# Altium footprint library Motor_driver.PcbLib: 10 footprints
Each footprint in its own frame and in the unit in brackets; x right, y up, seen from the top. Pads: shape width x height; smd on the part's side, far side on the other; paste and mask are expansions set on the pad; w line width, h text height; cw(c..) or ccw(c..) is an arc to the next point about the centre after c.
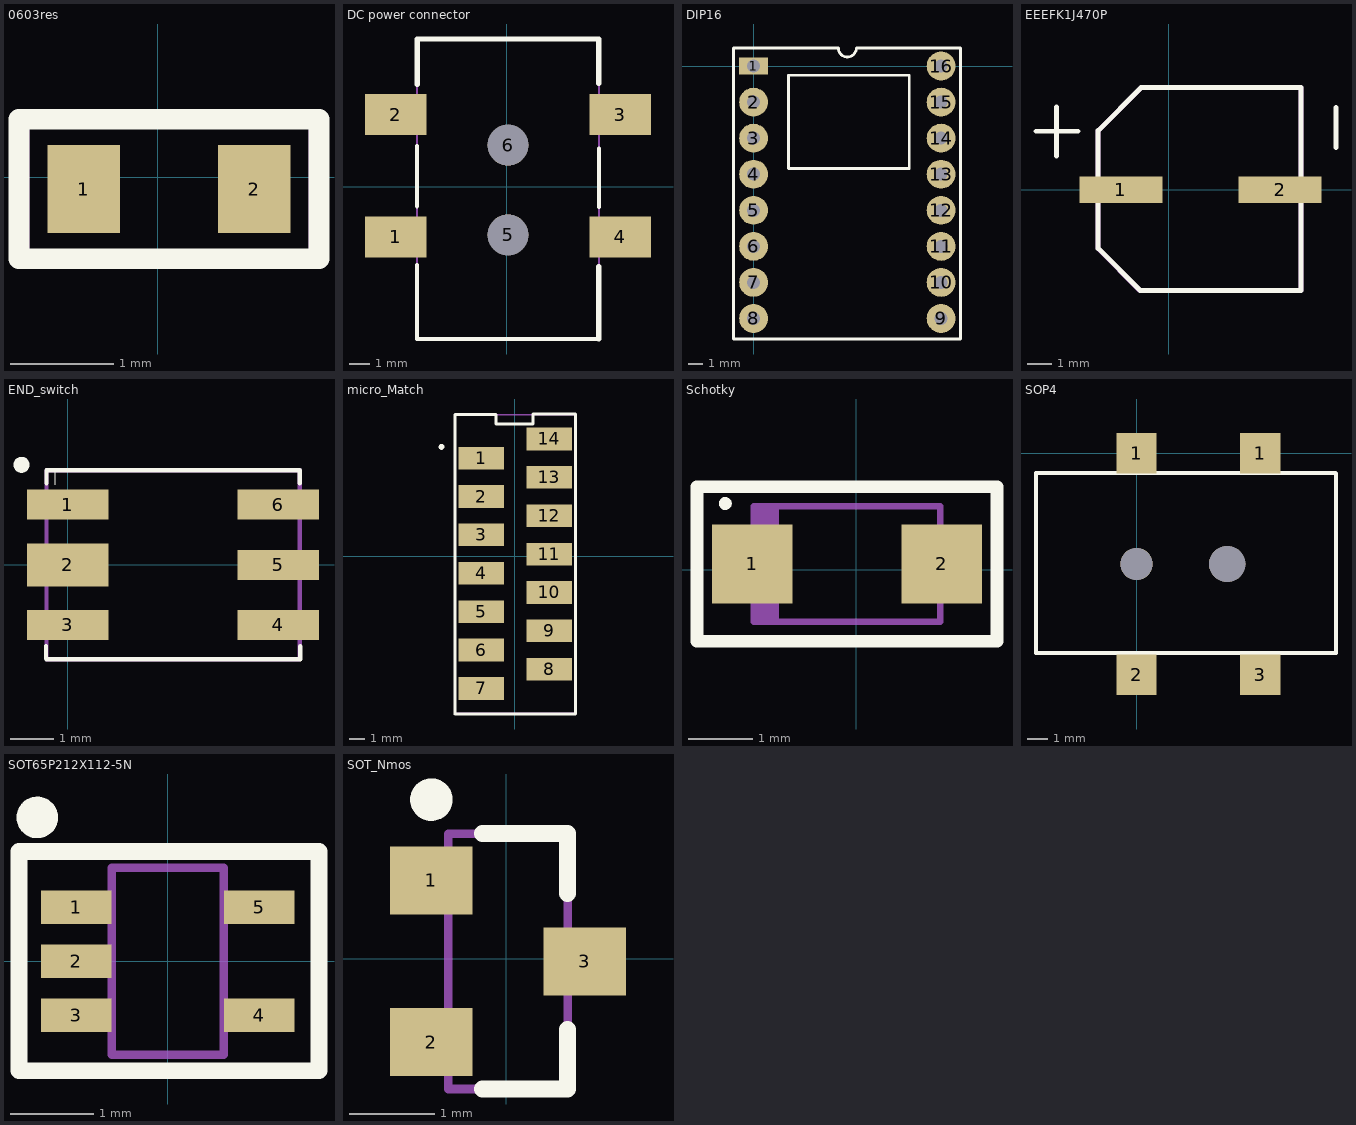
[diagram p0: the footprints below, top view; thin cyan lines are the x and y axes]

## 0603res [mm]
pads (2):
  rect 0.7x0.85 smd: 1(-0.715,-0.115) 2(0.935,-0.115)
Top Overlay:
  lines w0.2: -1.34,-0.79 -1.34,0.56 1.56,0.56 1.56,-0.79 -1.34,-0.79
Mechanical 29:
  lines w0.1: -1.287,-0.75 -1.287,0.52 1.507,0.52 1.507,-0.75 -1.287,-0.75
  text "'.Designator'" at -0.906,-0.496 h0.7
3D body: height 0.6, standoff 0, extent -0.39,-0.515 0.61,0.285
3D body: height 0.6, standoff 0, extent -0.69,-0.515 -0.39,0.285
3D body: height 0.6, standoff 0, extent 0.61,-0.515 0.91,0.285

## DC power connector [mm]
pads (6):
  rect 3x2 smd: 1(-5.439,-2.451) 2(-5.439,3.549) 3(5.561,3.549) 4(5.561,-2.451)
  round 2 hole 2 unplated: 5(0.061,-2.351) 6(0.061,2.049)
Top Overlay:
  lines w0.2: -4.389,-3.825 -4.389,-7.451 4.511,-7.451 ; -4.389,-0.945 -4.389,2.002 ; 4.511,-0.99 4.511,1.89
  lines w0.254: -4.389,5.017 -4.389,7.249 4.511,7.249 4.511,5.085 ; 4.511,-7.451 4.511,-3.893
Mechanical 29:
  lines w0.1: -4.389,-7.451 4.511,-7.451 4.511,7.249 -4.389,7.249 -4.389,-7.451

## DIP16 [mm]
pads (16):
  rect 2x1.2 hole 0.9: 1(0,0)
  round 2 hole 0.9: 2(0,-2.5) 3(0,-5) 4(0,-7.5) 5(0,-10) 6(0,-12.5) 7(0,-15) 8(0,-17.5) 9(13,-17.5) 10(13,-15) 11(13,-12.5) 12(13,-10) 13(13,-7.5) 14(13,-5) 15(13,-2.5) 16(13,0)
Top Overlay:
  lines w0.2: -1.397,-18.923 -1.397,1.25 5.875,1.25 ccw(c6.5,1.25) 7.125,1.25 14.351,1.25 14.351,-18.923 -1.397,-18.923 ; 2.413,-7.112 2.413,-0.635 10.795,-0.635 10.795,-7.112 2.413,-7.112
Mechanical 29:
  text "'.Designator'" at -2.59,-14.12 h2

## EEEFK1J470P [mm]
pads (2):
  rect 3.4x1.1 smd: 1(-1.96,0) 2(4.55,0)
Top Overlay:
  lines w0.2: -5.43,2.39 -3.71,2.39 ; -4.59,1.38 -4.59,3.39 ; 6.84,1.72 6.84,3.37 ; -2.89,-2.4 -2.89,2.42 -1.13,4.18 5.41,4.18 5.41,-4.12 -1.17,-4.12 -2.89,-2.4
Mechanical 29:
  lines w0.2: -2.89,-2.41 -1.18,-4.12 5.41,-4.12 5.41,4.18 -1.13,4.18 -2.89,2.42 -2.89,-2.41
  text "'.Designator'" at -0.68,0.54 h1
3D body "SW3dPS-capacitor size F.STEP": height 10.21, standoff -0.01, extent -3.65,-4.15 6.25,4.15

## END_switch [mm]
pads (6):
  rect 1.9x0.7 smd: 1(0,1.4) 3(0,-1.4) 4(4.9,-1.4) 5(4.9,0) 6(4.9,1.4)
  rect 1.9x1 smd: 2(0,0)
Top Overlay:
  circle w0.254: c-1.08,2.33 r0.058
  lines w0: -0.29,1.87 -0.29,2.2
  lines w0.1: -0.51,-1.89 -0.51,-2.19 -0.5,-2.2 -0.27,-2.2 5.24,-2.2 5.41,-2.2 5.41,-1.9 ; -0.5,1.9 -0.5,2.2 -0.29,2.2 5.23,2.2 5.4,2.2 5.4,1.9
Mechanical 29:
  lines w0.1: -0.5,-2.2 5.4,-2.2 5.4,2.2 -0.5,2.2 -0.5,-2.2
  text "'.Designator'" at 0.98,-1.1 h1
3D body: height 4, standoff 0, extent -0.52,-2.2 5.42,2.18

## micro_Match [mm]
pads (14):
  rect 3x1.5 smd: 1(-2.19,6.5) 2(-2.19,3.96) 3(-2.19,1.42) 4(-2.19,-1.12) 5(-2.19,-3.66) 6(-2.19,-6.2) 7(-2.19,-8.74) 8(2.31,-7.47) 9(2.31,-4.93) 10(2.31,-2.39) 11(2.31,0.15) 12(2.31,2.69) 13(2.31,5.23) 14(2.31,7.77)
Top Overlay:
  circle w0.254: c-4.83,7.24 r0.061
  lines w0.2: -3.95,-10.41 -3.93,-10.43 4.03,-10.43 4.03,9.42 1.22,9.42 1.22,8.77 -1.21,8.77 -1.21,9.4 -3.95,9.4 -3.95,-10.41
Mechanical 29:
  lines w0.1: 4.03,-10.42 4.03,4.37 4.03,9.36 -3.94,9.36 -3.94,-10.39 4.03,-10.39
  text "'.Designator'" at -0.01,-9.74 h1.5
3D body "c-1-2178711-4-a-3d.stp": height 5, standoff -0.25, extent -3.47,-10.375 3.53,9.335

## Schotky [mm]
pads (2):
  rect 1.25x1.22 smd: 1(-1.615,0.09) 2(1.335,0.09)
Top Overlay:
  circle w0.1: c-2.03,1.03 r0.05
  lines w0.2: -2.47,-1.11 2.19,-1.11 2.19,1.29 -2.47,1.29 -2.47,-1.11
Mechanical 29:
  rectangle: -1.59,-0.81 -1.2,0.99
  lines w0.1: -1.59,-0.81 1.31,-0.81 1.31,0.99 -1.59,0.99 -1.59,-0.81
  text "'.Designator'" at -1.94,-0.25 h2
3D body "DIOM2717X10N.step": height 1, standoff 0, extent -1.81,-0.81 1.53,0.99

## SOP4 [mm]
pads (6):
  rect 2x2 smd: 1(0,0) 1(6.15,0) 2(0,-11) 3(6.15,-11)
  round 1.6 hole 1.6 unplated: ""(0,-5.5)
  round 1.8 hole 1.8 unplated: ""(4.5,-5.5)
Top Overlay:
  lines w0.2: -5,-9.93 9.91,-9.93 9.91,-1.01 9.88,-0.98 -5,-0.98 -5,-9.93
Mechanical 29:
  lines w0.1: -5,-9.93 -5,-1.016 7.112,-1.016 9.906,-1.016 9.906,-9.93 -5,-9.93
  text "'.Designator'" at -4.63,-8.81 h2
3D body "pj-002ah-smt-tr.stp": height 11, standoff -1.2, extent -5.01,-11.81 9.79,0.79

## SOT65P212X112-5N [mm] "SOT23, 5-Leads, Body 2.05x2.13mm, Pitch 0.65mm, IPC Medium Density"
height 1.12
pads (5):
  rect 0.85x0.4 smd: 1(-1.1,0.65) 2(-1.1,0) 3(-1.1,-0.65) 4(1.1,-0.65) 5(1.1,0.65)
Top Overlay:
  circle w0.25: c-1.57,1.73 r0.125
  lines w0.2: -1.79,-1.32 1.82,-1.32 1.82,1.32 -1.79,1.32 -1.79,-1.32
Mechanical 29:
  lines w0.1: -0.675,-1.125 -0.675,1.125 0.675,1.125 0.675,-1.125 -0.675,-1.125
  text "'.Designator'" at -1.54,-0.56 h2
3D body "SOT65P212X112-5N.step": height 1.12, standoff 0.01, extent -1.118,-1.125 1.118,1.125

## SOT_Nmos [mm]
pads (3):
  rect 0.97x0.8 smd: 1(-0.88,0.92) 2(-0.88,-0.98) 3(0.92,-0.03)
Top Overlay:
  circle w0.25: c-0.88,1.87 r0.125
  lines w0.2: -0.28,-1.53 0.72,-1.53 0.72,-0.83 ; -0.28,1.47 0.72,1.47 0.72,0.77
Mechanical 29:
  lines w0.1: -0.68,-1.53 -0.68,1.47 0.72,1.47 0.72,-1.53 -0.68,-1.53
  text "'.Designator'" at -1.51,-0.21 h2
3D body "SOT95P237X112-3N.step": height 1.12, standoff 0, extent -1.3,-1.53 1.34,1.47